# EAGLE library part ZS-042_RTC_6-PIN_MALE_HEADER (library myLib-01-Headers)
Header for the ZS-042 RTC six pin module. Based on DS3231 Male
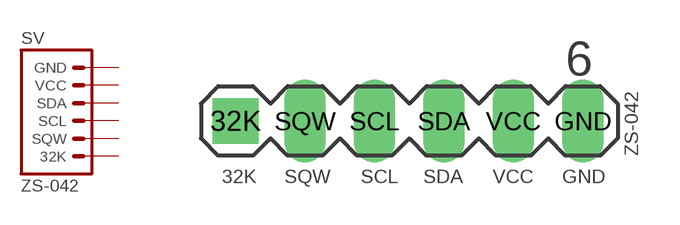
[diagram p5: symbol with the pads of ZS-042_RTC_6-PIN_MALE_HEADER; footprint ZS-042_RTC_6-PIN_MALE_HEADER]

Designator prefix SV

## ZS-042_RTC_6-PIN_MALE_HEADER (OC_FARNELL: unknown; OC_NEWARK: unknown)  [ZS-042_RTC_6-PIN_MALE_HEADER]
32K  32K  pas
GND  GND  pas
SCL  SCL  pas
SDA  SDA  pas
SQW  SQW  pas
VCC  VCC  pas

## Footprint ZS-042_RTC_6-PIN_MALE_HEADER (pad centres in mm)
PIN HEADER
drill 1.016 pad 1.676 square: 32K 0,0
drill 1.016 long: GND 12.7,0; SCL 5.08,0; SDA 7.62,0; SQW 2.54,0; VCC 10.16,0